# EAGLE library part RASPBERRYPI-GPIO+ (library Webmaster442)
RaspberryPI GPIO Header for A+/B+/2B models.
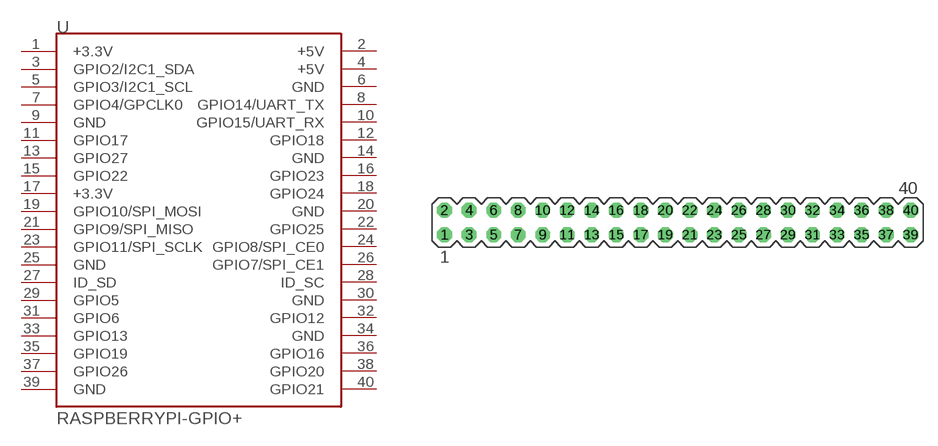
[diagram p16: symbol with the pads of MA20-2; footprint MA20-2]

Designator prefix -

## RASPBERRYPI-GPIO+  [MA20-2]
1  +3.3V
2  +5V
3  GPIO2/I2C1_SDA
4  +5V
5  GPIO3/I2C1_SCL
6  GND
7  GPIO4/GPCLK0
8  GPIO14/UART_TX
9  GND
10  GPIO15/UART_RX
11  GPIO17
12  GPIO18
13  GPIO27
14  GND
15  GPIO22
16  GPIO23
17  +3.3V
18  GPIO24
19  GPIO10/SPI_MOSI
20  GND
21  GPIO9/SPI_MISO
22  GPIO25
23  GPIO11/SPI_SCLK
24  GPIO8/SPI_CE0
25  GND
26  GPIO7/SPI_CE1
27  ID_SD
28  ID_SC
29  GPIO5
30  GND
31  GPIO6
32  GPIO12
33  GPIO13
34  GND
35  GPIO19
36  GPIO16
37  GPIO26
38  GPIO20
39  GND
40  GPIO21

## Footprint MA20-2 (pad centres in mm)
PIN HEADER
drill 1.016 octagon: 1 -24.13,-1.27; 2 -24.13,1.27; 3 -21.59,-1.27; 4 -21.59,1.27; 5 -19.05,-1.27; 6 -19.05,1.27; 7 -16.51,-1.27; 8 -16.51,1.27; 9 -13.97,-1.27; 10 -13.97,1.27; 11 -11.43,-1.27; 12 -11.43,1.27; 13 -8.89,-1.27; 14 -8.89,1.27; 15 -6.35,-1.27; 16 -6.35,1.27; 17 -3.81,-1.27; 18 -3.81,1.27; 19 -1.27,-1.27; 20 -1.27,1.27; 21 1.27,-1.27; 22 1.27,1.27; 23 3.81,-1.27; 24 3.81,1.27; 25 6.35,-1.27; 26 6.35,1.27; 27 8.89,-1.27; 28 8.89,1.27; 29 11.43,-1.27; 30 11.43,1.27; 31 13.97,-1.27; 32 13.97,1.27; 33 16.51,-1.27; 34 16.51,1.27; 35 19.05,-1.27; 36 19.05,1.27; 37 21.59,-1.27; 38 21.59,1.27; 39 24.13,-1.27; 40 24.13,1.27